# EAGLE library part VN210 (library nivis-vn210)
Nivis VN210 VersaNode 802.15.4 Radio
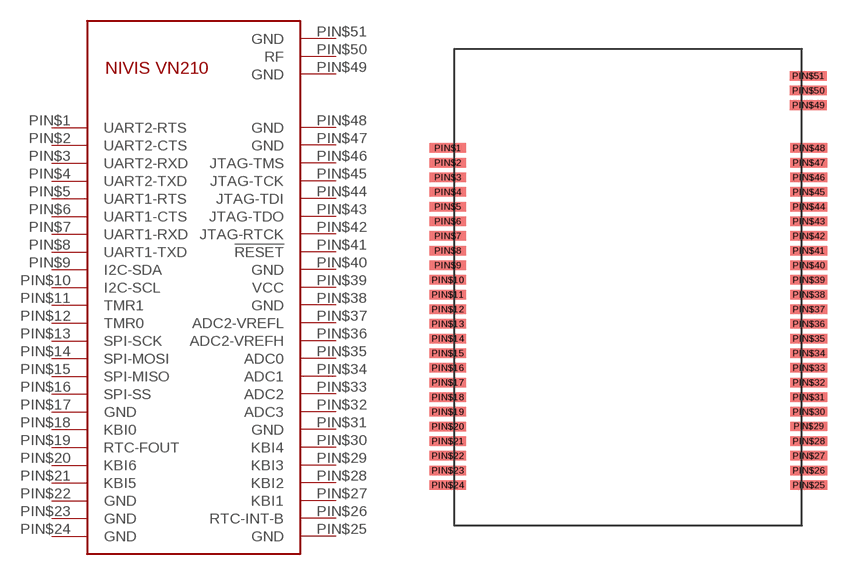
[diagram p0: symbol with the pads of VN210; footprint VN210]

Designator prefix -

## VN210  [VN210]
PIN$1  UART2-RTS  in
PIN$2  UART2-CTS  out
PIN$3  UART2-RXD  in
PIN$4  UART2-TXD  out
PIN$5  UART1-RTS  nc
PIN$6  UART1-CTS  nc
PIN$7  UART1-RXD  in
PIN$8  UART1-TXD  out
PIN$9  I2C-SDA  nc
PIN$10  I2C-SCL  nc
PIN$11  TMR1  out
PIN$12  TMR0  nc
PIN$13  SPI-SCK  out
PIN$14  SPI-MOSI  out
PIN$15  SPI-MISO  in
PIN$16  SPI-SS  out
PIN$17  GND  pwr
PIN$18  KBI0  nc
PIN$19  RTC-FOUT  out
PIN$20  KBI6  in
PIN$21  KBI5  nc
PIN$22  GND  pwr
PIN$23  GND  pwr
PIN$24  GND  pwr
PIN$25  GND  pwr
PIN$26  RTC-INT-B  nc
PIN$27  KBI1  in
PIN$28  KBI2  nc
PIN$29  KBI3  nc
PIN$30  KBI4  in
PIN$31  GND  pwr
PIN$32  ADC3  nc
PIN$33  ADC2  nc
PIN$34  ADC1  out
PIN$35  ADC0  nc
PIN$36  ADC2-VREFH  nc
PIN$37  ADC2-VREFL  nc
PIN$38  GND  pwr
PIN$39  VCC  pwr
PIN$40  GND  pwr
PIN$41  !RESET  in
PIN$42  JTAG-RTCK  out
PIN$43  JTAG-TDO  in
PIN$44  JTAG-TDI  in
PIN$45  JTAG-TCK  in
PIN$46  JTAG-TMS  in
PIN$47  GND  pwr
PIN$48  GND  pwr
PIN$49  GND  pwr
PIN$50  RF
PIN$51  GND  pwr

## Footprint VN210 (pad centres in mm)
smd 2.54 x 0.66: PIN$1 -0.635,23.368; PIN$2 -0.635,22.352; PIN$3 -0.635,21.336; PIN$4 -0.635,20.32; PIN$5 -0.635,19.304; PIN$6 -0.635,18.288; PIN$7 -0.635,17.272; PIN$8 -0.635,16.256; PIN$9 -0.635,15.24; PIN$10 -0.635,14.224; PIN$11 -0.635,13.208; PIN$12 -0.635,12.192; PIN$13 -0.635,11.176; PIN$14 -0.635,10.16; PIN$15 -0.635,9.144; PIN$16 -0.635,8.128; PIN$17 -0.635,7.112; PIN$18 -0.635,6.096; PIN$19 -0.635,5.08; PIN$20 -0.635,4.064; PIN$21 -0.635,3.048; PIN$22 -0.635,2.032; PIN$23 -0.635,1.016; PIN$24 -0.635,0; PIN$25 24.384,0; PIN$26 24.384,1.016; PIN$27 24.384,2.032; PIN$28 24.384,3.048; PIN$30 24.384,5.08; PIN$31 24.384,6.096; PIN$32 24.384,7.112; PIN$33 24.384,8.128; PIN$34 24.384,9.144; PIN$35 24.384,10.16; PIN$36 24.384,11.176; PIN$37 24.384,12.192; PIN$38 24.384,13.208; PIN$39 24.384,14.224; PIN$40 24.384,15.24; PIN$41 24.384,16.256; PIN$42 24.384,17.272; PIN$43 24.384,18.288; PIN$44 24.384,19.304; PIN$45 24.384,20.32; PIN$46 24.384,21.336; PIN$47 24.384,22.352; PIN$48 24.384,23.368; PIN$49 24.359,26.34; PIN$50 24.359,27.356; PIN$51 24.359,28.372
smd 2.54 x 0.635: PIN$29 24.384,4.064